# Altium schematic symbol library AT25_P.Schlib: 1 symbol
Pins are listed as number, name and electrical type; pins without a type are passive.

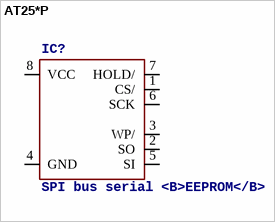
[diagram p0: symbol AT25*P]

## AT25*P
designator IC?, comment SPI bus serial <B>EEPROM</B>
MPN: CAT25040LI-G; OC_FARNELL: 1718045; OC_NEWARK: 06R0588
footprint DIL08
pins: 1 CS/, 2 SO, 3 WP/, 4 GND (power), 5 SI, 6 SCK, 7 HOLD/, 8 VCC (power)